# EAGLE library part OPA2626IDGKR (library OPA2626IDGKR)
High-Bandwidth, High-Precision, Low THD+N, 16-Bit and 18-Bit ADC Drivers Source: Datasheet <http://www.ti.com/lit/gpn/opa2626>
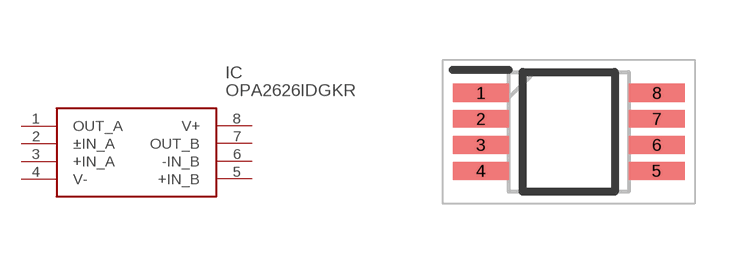
[diagram p0: symbol with the pads of SOP65P490X110-8N; footprint SOP65P490X110-8N]

Designator prefix IC

## OPA2626IDGKR (Description: High-Bandwidth, High-Precision, Low THD+N, 16-Bit and 18-Bit ADC Drivers; Height: 1.1mm; Manufacturer_Name: Texas Instruments; Manufacturer_Part_Number: OPA2626IDGKR; Mouser_Part_Number: 595-OPA2626IDGKR; Mouser_Price-Stock: https://www.mouser.com/Search/Refine.aspx?Keyword=595-OPA2626IDGKR)  [SOP65P490X110-8N]
1  OUT_A
2  ±IN_A
3  +IN_A
4  V-
5  +IN_B
6  -IN_B
7  OUT_B
8  V+

## Footprint SOP65P490X110-8N (pad centres in mm)
DGK (S-PDSO-G8)
smd 1.4 x 0.45: 1 -2.2,0.975; 2 -2.2,0.325; 3 -2.2,-0.325; 4 -2.2,-0.975; 5 2.2,-0.975; 6 2.2,-0.325; 7 2.2,0.325; 8 2.2,0.975